# Altium schematic symbol library STM32_1_Schlib1.SchLib: 15 symbols
Pins are listed as number, name and electrical type; pins without a type are passive.

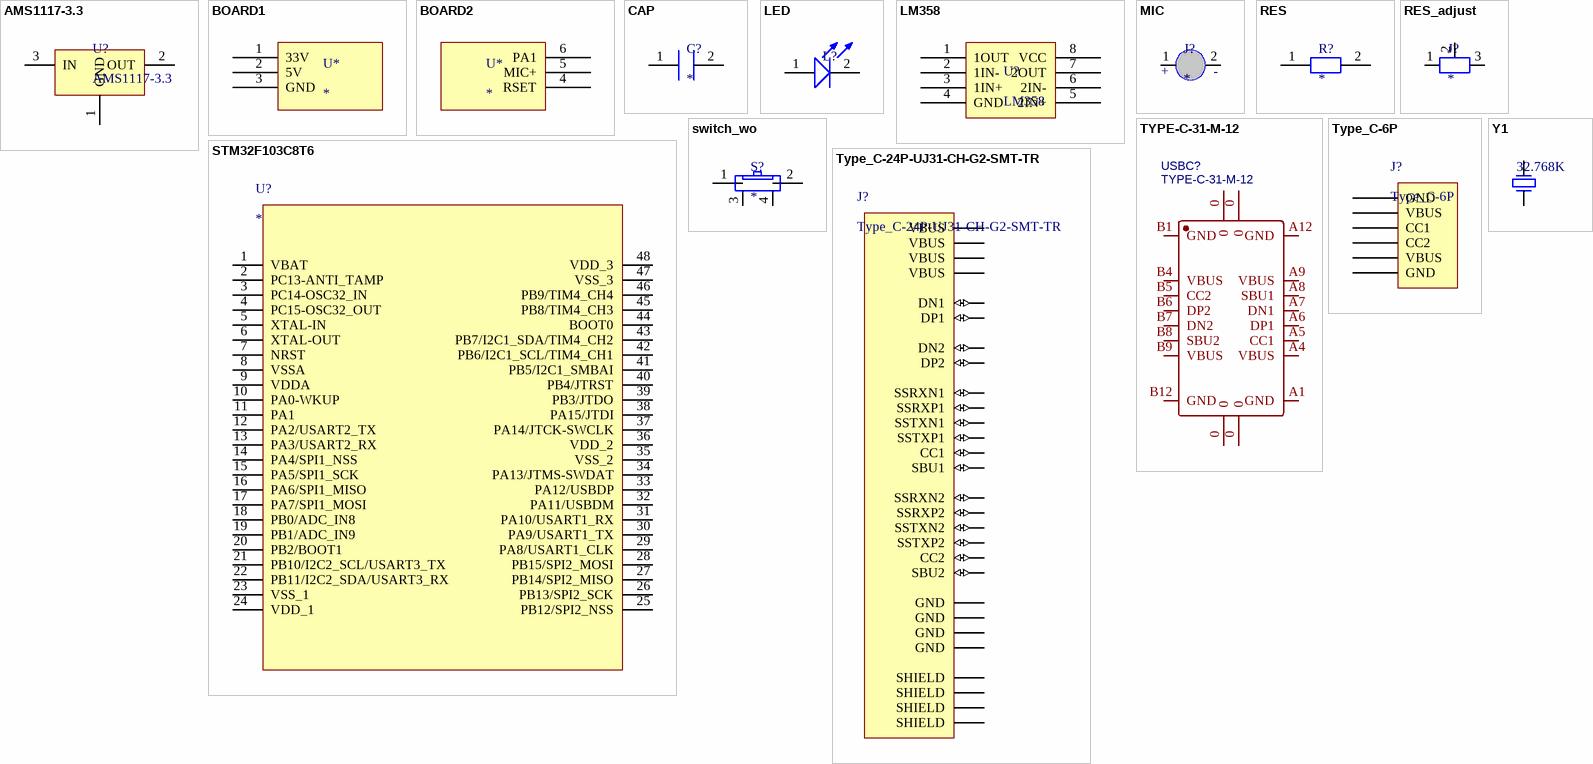
[diagram p0: symbols AMS1117-3.3 to Y1]

## AMS1117-3.3
designator U?
5V稳3.3V
pins: 1 GND, 2 OUT, 3 IN

## BOARD1
designator U*
footprint board
footprint board1 (Footprint not found)
pins: 1 33V, 2 5V, 3 GND

## BOARD2
designator U*
footprint board2
pins: 4 RSET, 5 MIC+, 6 PA1

## CAP
designator C?
电容
pins: 1, 2

## LED
designator L?, comment 1  (value not drawn)
pins: 1, 2

## LM358
designator U?
音频放大
footprint SOP8_M (5*6*1.8mm（长宽高）)
pins: 1 1OUT, 2 1IN-, 3 1IN+, 4 GND, 5 2IN+, 6 2IN-, 7 2OUT, 8 VCC

## MIC
designator J?
咪头
pins: 1, 2
text: +; -

## RES
designator R?
电阻
pins: 1, 2

## RES_adjust
designator J?
滑动变阻器
footprint RV09
pins: 1, 2, 3

## STM32F103C8T6
designator U?
STM32
pins: 1 VBAT, 2 PC13-ANTI_TAMP, 3 PC14-OSC32_IN, 4 PC15-OSC32_OUT, 5 XTAL-IN, 6 XTAL-OUT, 7 NRST, 8 VSSA, 9 VDDA, 10 PA0-WKUP, 11 PA1, 12 PA2/USART2_TX, 13 PA3/USART2_RX, 14 PA4/SPI1_NSS, 15 PA5/SPI1_SCK, 16 PA6/SPI1_MISO, 17 PA7/SPI1_MOSI, 18 PB0/ADC_IN8, 19 PB1/ADC_IN9, 20 PB2/BOOT1, 21 PB10/I2C2_SCL/USART3_TX, 22 PB11/I2C2_SDA/USART3_RX, 23 VSS_1, 24 VDD_1, 25 PB12/SPI2_NSS, 26 PB13/SPI2_SCK, 27 PB14/SPI2_MISO, 28 PB15/SPI2_MOSI, 29 PA8/USART1_CLK, 30 PA9/USART1_TX, 31 PA10/USART1_RX, 32 PA11/USBDM, 33 PA12/USBDP, 34 PA13/JTMS-SWDAT, 35 VSS_2, 36 VDD_2, 37 PA14/JTCK-SWCLK, 38 PA15/JTDI, 39 PB3/JTDO, 40 PB4/JTRST, 41 PB5/I2C1_SMBAI, 42 PB6/I2C1_SCL/TIM4_CH1, 43 PB7/I2C1_SDA/TIM4_CH2, 44 BOOT0, 45 PB8/TIM4_CH3, 46 PB9/TIM4_CH4, 47 VSS_3, 48 VDD_3

## switch_wo
designator S?
卧式开关
pins: 1, 2, 3, 4

## TYPE-C-31-M-12
designator USBC?
footprint USB-TYPE-C_16PIN-MALE-TYPE-C-31-M-12
pins: 0, 0, 0, 0, A1 GND, A4 VBUS, A5 CC1, A6 DP1, A7 DN1, A8 SBU1, A9 VBUS, A12 GND, B1 GND, B4 VBUS, B5 CC2, B6 DP2, B7 DN2, B8 SBU2, B9 VBUS, B12 GND

## Type_C-6P
designator J?
footprint Type-C-6P
pins: A5 CC1, A9 VBUS, A12 GND, B5 CC2, B9 VBUS, B12 GND

## Type_C-24P-UJ31-CH-G2-SMT-TR
designator J?
UJ31 Series Single Port 24 Contact Horizontal SMT Shielded USB-C 3.1 Receptacle
footprint Type_C-UJ31-CH-G2-SMT-TR(Primary)
pins: A1 GND (power), A2 SSTXP1 (io), A3 SSTXN1 (io), A4 VBUS (power), A5 CC1 (io), A6 DP1 (io), A7 DN1 (io), A8 SBU1 (io), A9 VBUS (power), A10 SSRXN2 (io), A11 SSRXP2 (io), A12 GND (power), B1 GND (power), B2 SSTXP2 (io), B3 SSTXN2 (io), B4 VBUS (power), B5 CC2 (io), B6 DP2 (io), B7 DN2 (io), B8 SBU2 (io), B9 VBUS (power), B10 SSRXN1 (io), B11 SSRXP1 (io), B12 GND (power), SH1 SHIELD (power), SH2 SHIELD (power), SH3 SHIELD (power), SH4 SHIELD (power)

## Y1
designator 32.768K, comment 1  (value not drawn)
晶振
pins: 1, 2